# EAGLE library part TPA6211A1TDGNRQ1 (library theremin)
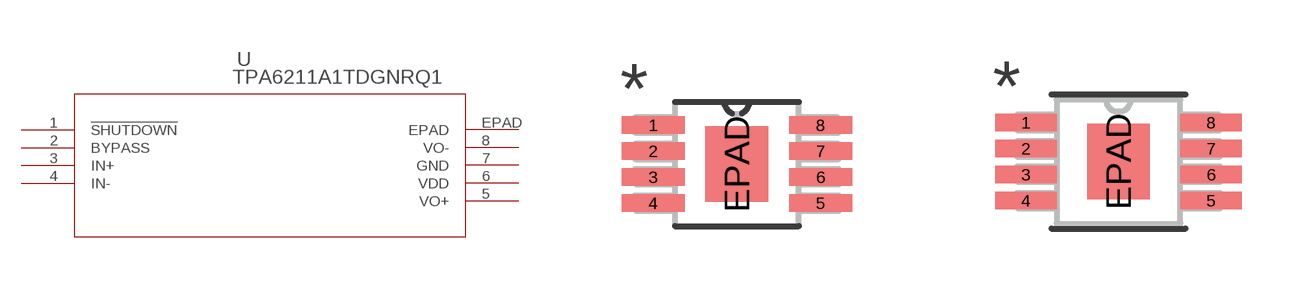
[diagram p0: symbol with the pads of DGN8_1P89X1P57; footprints DGN8_1P89X1P57, DGN8_1P89X1P57-M]

Designator prefix U

## TPA6211A1TDGNRQ1 (COPYRIGHT: Copyright (C) 2025 Ultra Librarian. All rights reserved.; MANUFACTURER_PART_NUMBER: TPA6211A1TDGNRQ1; MFR_NAME: Texas Instruments)  [DGN8_1P89X1P57]
1  !SHUTDOWN  in
2  BYPASS  pas
3  IN+  in
4  IN-  in
5  VO+  out
6  VDD  pwr
7  GND  pwr
8  VO-  out
EPAD  EPAD  pas

## TPA6211A1TDGNRQ1DGN8_1P89X1P57-M (COPYRIGHT: Copyright (C) 2025 Ultra Librarian. All rights reserved.; MANUFACTURER_PART_NUMBER: TPA6211A1TDGNRQ1; MFR_NAME: Texas Instruments)  [DGN8_1P89X1P57-M]
Pads as for DGN8_1P89X1P57

## TPA6211A1TDGNRQ1DGN8_1P89X1P57-L (COPYRIGHT: Copyright (C) 2025 Ultra Librarian. All rights reserved.; MANUFACTURER_PART_NUMBER: TPA6211A1TDGNRQ1; MFR_NAME: Texas Instruments)  [DGN8_1P89X1P57-L]
Pads as for DGN8_1P89X1P57

## Footprint DGN8_1P89X1P57 (pad centres in mm)
smd 1.575 x 0.432: 1 -2.095,0.975; 2 -2.095,0.325; 3 -2.095,-0.325; 4 -2.095,-0.975; 5 2.095,-0.975; 6 2.095,-0.325; 7 2.095,0.325; 8 2.095,0.975
smd 1.57 x 1.89: EPAD 0,0

## Footprint DGN8_1P89X1P57-M (pad centres in mm)
smd 1.537 x 0.432: 1 -2.318,0.975; 2 -2.318,0.325; 3 -2.318,-0.325; 4 -2.318,-0.975; 5 2.318,-0.975; 6 2.318,-0.325; 7 2.318,0.325; 8 2.318,0.975
smd 1.57 x 1.89: EPAD 0,0

## Footprint DGN8_1P89X1P57-L (pad centres in mm)
smd 1.118 x 0.381: 1 -2.121,0.975; 2 -2.121,0.325; 3 -2.121,-0.325; 4 -2.121,-0.975; 5 2.121,-0.975; 6 2.121,-0.325; 7 2.121,0.325; 8 2.121,0.975
smd 1.57 x 1.89: EPAD 0,0